# Altium footprint library FFC_FPC_P0.5.PcbLib: 41 footprints (part 3 of 3)
Each footprint in its own frame and in the unit in brackets; x right, y up, seen from the top. Pads: shape width x height; smd on the part's side, far side on the other; paste and mask are expansions set on the pad; w line width, h text height; cw(c..) or ccw(c..) is an arc to the next point about the centre after c.
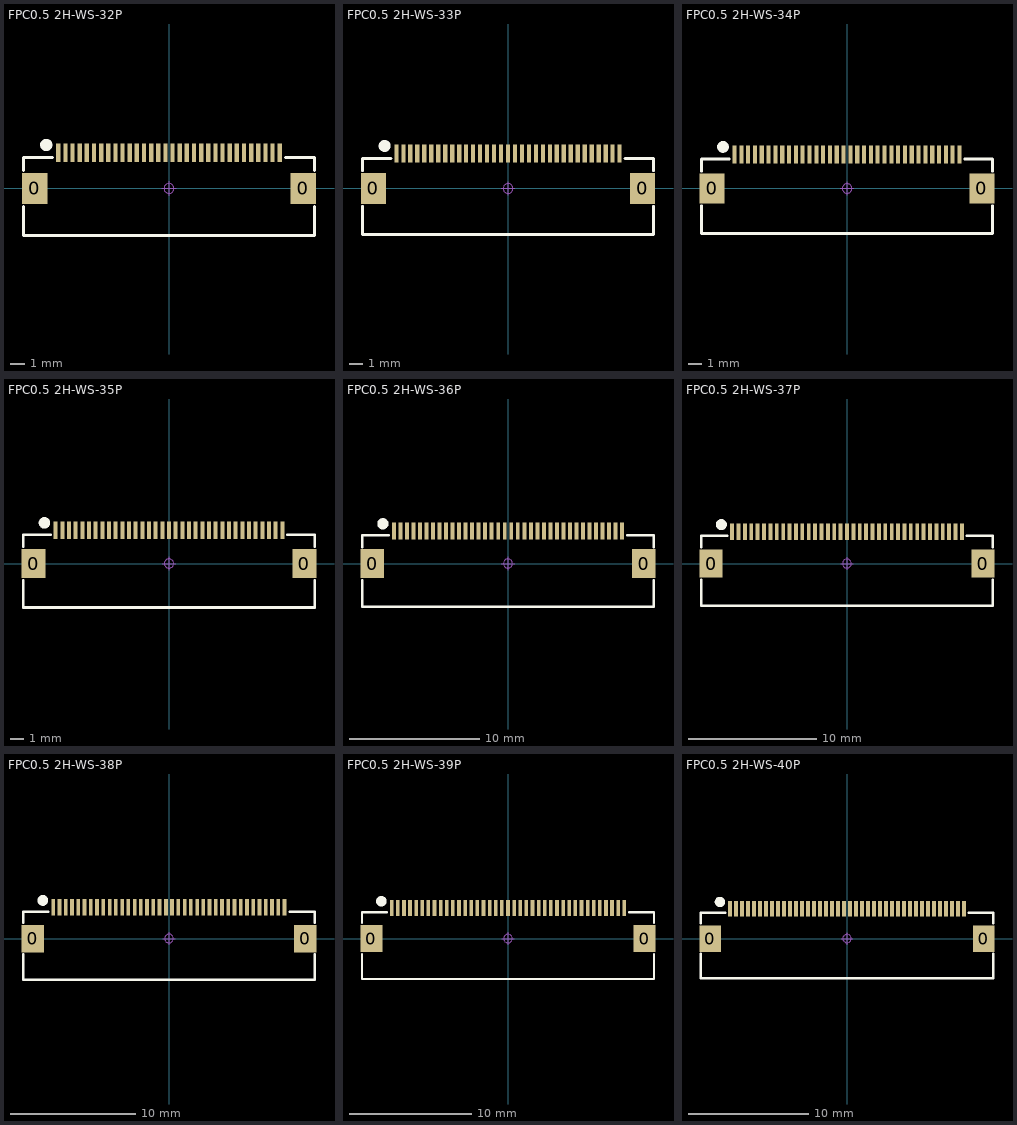
[diagram p2: the footprints below, top view; thin cyan lines are the x and y axes]

## FPC0.5 2H-WS-32P [mm] "长：20.2mm，宽：5.2mm，高：2mm"
pads (34):
  rect 1.8x2.2 smd: 0(-9.4,0) 0(9.4,0)
  rect 0.3x1.3 smd: 1(-7.75,2.497) 2(-7.25,2.497) 3(-6.75,2.497) 4(-6.25,2.497) 5(-5.75,2.497) 6(-5.25,2.497) 7(-4.75,2.497) 8(-4.25,2.497) 9(-3.75,2.497) 10(-3.25,2.497) 11(-2.75,2.497) 12(-2.25,2.497) 13(-1.75,2.497) 14(-1.25,2.497) 15(-0.75,2.497) 16(-0.25,2.497) 17(0.25,2.497) 18(0.75,2.497) 19(1.25,2.497) 20(1.75,2.497) 21(2.25,2.497) 22(2.75,2.497) 23(3.25,2.497) 24(3.75,2.497) 25(4.25,2.497) 26(4.75,2.497) 27(5.25,2.497) 28(5.75,2.497) 29(6.25,2.497) 30(6.75,2.497) 31(7.25,2.497) 32(7.75,2.497)
Top Overlay:
  circle w0.5: c-8.594,3.048 r0.18
  lines w0.2: -10.175,-1.27 -10.175,-3.302 10.175,-3.302 10.175,-1.27 ; -10.175,1.27 -10.175,2.159 -8.143,2.159 ; 8.143,2.159 10.175,2.159 10.175,1.27
Mechanical 15:
  circle w0.05: c0,0 r0.35
  lines w0.05: -0.5,0 0.5,0 ; 0,-0.5 0,0.5
3D body "FPC0.5 2H-S-W-32P.STEP": height 2, standoff -0.01, extent -10.1,-3.15 10.1,2.85

## FPC0.5 2H-WS-33P [mm] "长：20.7mm，宽：5.2mm，高：2mm"
pads (35):
  rect 1.8x2.2 smd: 0(-9.65,0) 0(9.65,0)
  rect 0.3x1.3 smd: 1(-8,2.497) 2(-7.5,2.497) 3(-7,2.497) 4(-6.5,2.497) 5(-6,2.497) 6(-5.5,2.497) 7(-5,2.497) 8(-4.5,2.497) 9(-4,2.497) 10(-3.5,2.497) 11(-3,2.497) 12(-2.5,2.497) 13(-2,2.497) 14(-1.5,2.497) 15(-1,2.497) 16(-0.5,2.497) 17(0,2.497) 18(0.5,2.497) 19(1,2.497) 20(1.5,2.497) 21(2,2.497) 22(2.5,2.497) 23(3,2.497) 24(3.5,2.497) 25(4,2.497) 26(4.5,2.497) 27(5,2.497) 28(5.5,2.497) 29(6,2.497) 30(6.5,2.497) 31(7,2.497) 32(7.5,2.497) 33(8,2.497)
Top Overlay:
  circle w0.5: c-8.844,3.048 r0.18
  lines w0.2: -10.425,-1.27 -10.425,-3.302 10.425,-3.302 10.425,-1.27 ; -10.425,1.27 -10.425,2.159 -8.393,2.159 ; 8.393,2.159 10.425,2.159 10.425,1.27
Mechanical 15:
  circle w0.05: c0,0 r0.35
  lines w0.05: -0.5,0 0.5,0 ; 0,-0.5 0,0.5
3D body "FPC0.5 2H-S-W-33P.STEP": height 2, standoff -0.01, extent -10.35,-3.15 10.35,2.85

## FPC0.5 2H-WS-34P [mm] "长：21.2mm，宽：5.2mm，高：2mm"
pads (36):
  rect 1.8x2.2 smd: 0(-9.9,0) 0(9.9,0)
  rect 0.3x1.3 smd: 1(-8.25,2.497) 2(-7.75,2.497) 3(-7.25,2.497) 4(-6.75,2.497) 5(-6.25,2.497) 6(-5.75,2.497) 7(-5.25,2.497) 8(-4.75,2.497) 9(-4.25,2.497) 10(-3.75,2.497) 11(-3.25,2.497) 12(-2.75,2.497) 13(-2.25,2.497) 14(-1.75,2.497) 15(-1.25,2.497) 16(-0.75,2.497) 17(-0.25,2.497) 18(0.25,2.497) 19(0.75,2.497) 20(1.25,2.497) 21(1.75,2.497) 22(2.25,2.497) 23(2.75,2.497) 24(3.25,2.497) 25(3.75,2.497) 26(4.25,2.497) 27(4.75,2.497) 28(5.25,2.497) 29(5.75,2.497) 30(6.25,2.497) 31(6.75,2.497) 32(7.25,2.497) 33(7.75,2.497) 34(8.25,2.497)
Top Overlay:
  circle w0.5: c-9.094,3.048 r0.18
  lines w0.2: -10.675,-1.27 -10.675,-3.302 10.675,-3.302 10.675,-1.27 ; -10.675,1.27 -10.675,2.159 -8.643,2.159 ; 8.643,2.159 10.675,2.159 10.675,1.27
Mechanical 15:
  circle w0.05: c0,0 r0.35
  lines w0.05: -0.5,0 0.5,0 ; 0,-0.5 0,0.5
3D body "FPC0.5 2H-S-W-34P.STEP": height 2, standoff -0.01, extent -10.6,-3.15 10.6,2.85

## FPC0.5 2H-WS-35P [mm] "长：21.7mm，宽：5.2mm，高：2mm"
pads (37):
  rect 1.8x2.2 smd: 0(-10.15,0) 0(10.15,0)
  rect 0.3x1.3 smd: 1(-8.5,2.497) 2(-8,2.497) 3(-7.5,2.497) 4(-7,2.497) 5(-6.5,2.497) 6(-6,2.497) 7(-5.5,2.497) 8(-5,2.497) 9(-4.5,2.497) 10(-4,2.497) 11(-3.5,2.497) 12(-3,2.497) 13(-2.5,2.497) 14(-2,2.497) 15(-1.5,2.497) 16(-1,2.497) 17(-0.5,2.497) 18(0,2.497) 19(0.5,2.497) 20(1,2.497) 21(1.5,2.497) 22(2,2.497) 23(2.5,2.497) 24(3,2.497) 25(3.5,2.497) 26(4,2.497) 27(4.5,2.497) 28(5,2.497) 29(5.5,2.497) 30(6,2.497) 31(6.5,2.497) 32(7,2.497) 33(7.5,2.497) 34(8,2.497) 35(8.5,2.497)
Top Overlay:
  circle w0.5: c-9.344,3.048 r0.18
  lines w0.2: -10.925,-1.27 -10.925,-3.302 10.925,-3.302 10.925,-1.27 ; -10.925,1.27 -10.925,2.159 -8.893,2.159 ; 8.893,2.159 10.925,2.159 10.925,1.27
Mechanical 15:
  circle w0.05: c0,0 r0.35
  lines w0.05: -0.5,0 0.5,0 ; 0,-0.5 0,0.5
3D body "FPC0.5 2H-S-W-35P.STEP": height 2, standoff -0.01, extent -10.85,-3.15 10.85,2.85

## FPC0.5 2H-WS-36P [mm] "长：22.2mm，宽：5.2mm，高：2mm"
pads (38):
  rect 1.8x2.2 smd: 0(-10.4,0) 0(10.4,0)
  rect 0.3x1.3 smd: 1(-8.75,2.497) 2(-8.25,2.497) 3(-7.75,2.497) 4(-7.25,2.497) 5(-6.75,2.497) 6(-6.25,2.497) 7(-5.75,2.497) 8(-5.25,2.497) 9(-4.75,2.497) 10(-4.25,2.497) 11(-3.75,2.497) 12(-3.25,2.497) 13(-2.75,2.497) 14(-2.25,2.497) 15(-1.75,2.497) 16(-1.25,2.497) 17(-0.75,2.497) 18(-0.25,2.497) 19(0.25,2.497) 20(0.75,2.497) 21(1.25,2.497) 22(1.75,2.497) 23(2.25,2.497) 24(2.75,2.497) 25(3.25,2.497) 26(3.75,2.497) 27(4.25,2.497) 28(4.75,2.497) 29(5.25,2.497) 30(5.75,2.497) 31(6.25,2.497) 32(6.75,2.497) 33(7.25,2.497) 34(7.75,2.497) 35(8.25,2.497) 36(8.75,2.497)
Top Overlay:
  circle w0.5: c-9.594,3.048 r0.18
  lines w0.2: -11.175,-1.27 -11.175,-3.302 11.175,-3.302 11.175,-1.27 ; -11.175,1.27 -11.175,2.159 -9.143,2.159 ; 9.143,2.159 11.175,2.159 11.175,1.27
Mechanical 15:
  circle w0.05: c0,0 r0.35
  lines w0.05: -0.5,0 0.5,0 ; 0,-0.5 0,0.5
3D body "FPC0.5 2H-S-W-36P.STEP": height 2, standoff -0.01, extent -11.1,-3.15 11.1,2.85

## FPC0.5 2H-WS-37P [mm] "长：22.7mm，宽：5.2mm，高：2mm"
pads (39):
  rect 1.8x2.2 smd: 0(-10.65,0) 0(10.65,0)
  rect 0.3x1.3 smd: 1(-9,2.497) 2(-8.5,2.497) 3(-8,2.497) 4(-7.5,2.497) 5(-7,2.497) 6(-6.5,2.497) 7(-6,2.497) 8(-5.5,2.497) 9(-5,2.497) 10(-4.5,2.497) 11(-4,2.497) 12(-3.5,2.497) 13(-3,2.497) 14(-2.5,2.497) 15(-2,2.497) 16(-1.5,2.497) 17(-1,2.497) 18(-0.5,2.497) 19(0,2.497) 20(0.5,2.497) 21(1,2.497) 22(1.5,2.497) 23(2,2.497) 24(2.5,2.497) 25(3,2.497) 26(3.5,2.497) 27(4,2.497) 28(4.5,2.497) 29(5,2.497) 30(5.5,2.497) 31(6,2.497) 32(6.5,2.497) 33(7,2.497) 34(7.5,2.497) 35(8,2.497) 36(8.5,2.497) 37(9,2.497)
Top Overlay:
  circle w0.5: c-9.844,3.048 r0.18
  lines w0.2: -11.425,-1.27 -11.425,-3.302 11.425,-3.302 11.425,-1.27 ; -11.425,1.27 -11.425,2.159 -9.393,2.159 ; 9.393,2.159 11.425,2.159 11.425,1.27
Mechanical 15:
  circle w0.05: c0,0 r0.35
  lines w0.05: -0.5,0 0.5,0 ; 0,-0.5 0,0.5
3D body "FPC0.5 2H-S-W-37P.STEP": height 2, standoff -0.01, extent -11.35,-3.15 11.35,2.85

## FPC0.5 2H-WS-38P [mm] "长：23.2mm，宽：5.2mm，高：2mm"
pads (40):
  rect 1.8x2.2 smd: 0(-10.9,0) 0(10.9,0)
  rect 0.3x1.3 smd: 1(-9.25,2.497) 2(-8.75,2.497) 3(-8.25,2.497) 4(-7.75,2.497) 5(-7.25,2.497) 6(-6.75,2.497) 7(-6.25,2.497) 8(-5.75,2.497) 9(-5.25,2.497) 10(-4.75,2.497) 11(-4.25,2.497) 12(-3.75,2.497) 13(-3.25,2.497) 14(-2.75,2.497) 15(-2.25,2.497) 16(-1.75,2.497) 17(-1.25,2.497) 18(-0.75,2.497) 19(-0.25,2.497) 20(0.25,2.497) 21(0.75,2.497) 22(1.25,2.497) 23(1.75,2.497) 24(2.25,2.497) 25(2.75,2.497) 26(3.25,2.497) 27(3.75,2.497) 28(4.25,2.497) 29(4.75,2.497) 30(5.25,2.497) 31(5.75,2.497) 32(6.25,2.497) 33(6.75,2.497) 34(7.25,2.497) 35(7.75,2.497) 36(8.25,2.497) 37(8.75,2.497) 38(9.25,2.497)
Top Overlay:
  circle w0.5: c-10.094,3.048 r0.18
  lines w0.2: -11.675,-1.27 -11.675,-3.302 11.675,-3.302 11.675,-1.27 ; -11.675,1.27 -11.675,2.159 -9.643,2.159 ; 9.643,2.159 11.675,2.159 11.675,1.27
Mechanical 15:
  circle w0.05: c0,0 r0.35
  lines w0.05: -0.5,0 0.5,0 ; 0,-0.5 0,0.5
3D body "FPC0.5 2H-S-W-38P.STEP": height 2, standoff -0.01, extent -11.6,-3.15 11.6,2.85

## FPC0.5 2H-WS-39P [mm] "长：23.7mm，宽：5.2mm，高：2mm"
pads (41):
  rect 1.8x2.2 smd: 0(-11.15,0) 0(11.15,0)
  rect 0.3x1.3 smd: 1(-9.5,2.497) 2(-9,2.497) 3(-8.5,2.497) 4(-8,2.497) 5(-7.5,2.497) 6(-7,2.497) 7(-6.5,2.497) 8(-6,2.497) 9(-5.5,2.497) 10(-5,2.497) 11(-4.5,2.497) 12(-4,2.497) 13(-3.5,2.497) 14(-3,2.497) 15(-2.5,2.497) 16(-2,2.497) 17(-1.5,2.497) 18(-1,2.497) 19(-0.5,2.497) 20(0,2.497) 21(0.5,2.497) 22(1,2.497) 23(1.5,2.497) 24(2,2.497) 25(2.5,2.497) 26(3,2.497) 27(3.5,2.497) 28(4,2.497) 29(4.5,2.497) 30(5,2.497) 31(5.5,2.497) 32(6,2.497) 33(6.5,2.497) 34(7,2.497) 35(7.5,2.497) 36(8,2.497) 37(8.5,2.497) 38(9,2.497) 39(9.5,2.497)
Top Overlay:
  circle w0.5: c-10.344,3.048 r0.18
  lines w0.2: -11.925,-1.27 -11.925,-3.302 11.925,-3.302 11.925,-1.27 ; -11.925,1.27 -11.925,2.159 -9.893,2.159 ; 9.893,2.159 11.925,2.159 11.925,1.27
Mechanical 15:
  circle w0.05: c0,0 r0.35
  lines w0.05: -0.5,0 0.5,0 ; 0,-0.5 0,0.5
3D body "FPC0.5 2H-S-W-39P.STEP": height 2, standoff -0.01, extent -11.85,-3.15 11.85,2.85

## FPC0.5 2H-WS-40P [mm] "长：24.2mm，宽：5.2mm，高：2mm"
pads (42):
  rect 1.8x2.2 smd: 0(-11.4,0) 0(11.4,0)
  rect 0.3x1.3 smd: 1(-9.75,2.497) 2(-9.25,2.497) 3(-8.75,2.497) 4(-8.25,2.497) 5(-7.75,2.497) 6(-7.25,2.497) 7(-6.75,2.497) 8(-6.25,2.497) 9(-5.75,2.497) 10(-5.25,2.497) 11(-4.75,2.497) 12(-4.25,2.497) 13(-3.75,2.497) 14(-3.25,2.497) 15(-2.75,2.497) 16(-2.25,2.497) 17(-1.75,2.497) 18(-1.25,2.497) 19(-0.75,2.497) 20(-0.25,2.497) 21(0.25,2.497) 22(0.75,2.497) 23(1.25,2.497) 24(1.75,2.497) 25(2.25,2.497) 26(2.75,2.497) 27(3.25,2.497) 28(3.75,2.497) 29(4.25,2.497) 30(4.75,2.497) 31(5.25,2.497) 32(5.75,2.497) 33(6.25,2.497) 34(6.75,2.497) 35(7.25,2.497) 36(7.75,2.497) 37(8.25,2.497) 38(8.75,2.497) 39(9.25,2.497) 40(9.75,2.497)
Top Overlay:
  circle w0.5: c-10.594,3.048 r0.18
  lines w0.2: -12.175,-1.27 -12.175,-3.302 12.175,-3.302 12.175,-1.27 ; -12.175,1.27 -12.175,2.159 -10.143,2.159 ; 10.143,2.159 12.175,2.159 12.175,1.27
Mechanical 15:
  circle w0.05: c0,0 r0.35
  lines w0.05: -0.5,0 0.5,0 ; 0,-0.5 0,0.5
3D body "FPC0.5 2H-S-W-40P.STEP": height 2, standoff -0.01, extent -12.1,-3.15 12.1,2.85